# Altium footprint library resistor.PcbLib: 49 footprints (part 3 of 4)
Each footprint in its own frame and in the unit in brackets; x right, y up, seen from the top. Pads: shape width x height; smd on the part's side, far side on the other; paste and mask are expansions set on the pad; w line width, h text height; cw(c..) or ccw(c..) is an arc to the next point about the centre after c.
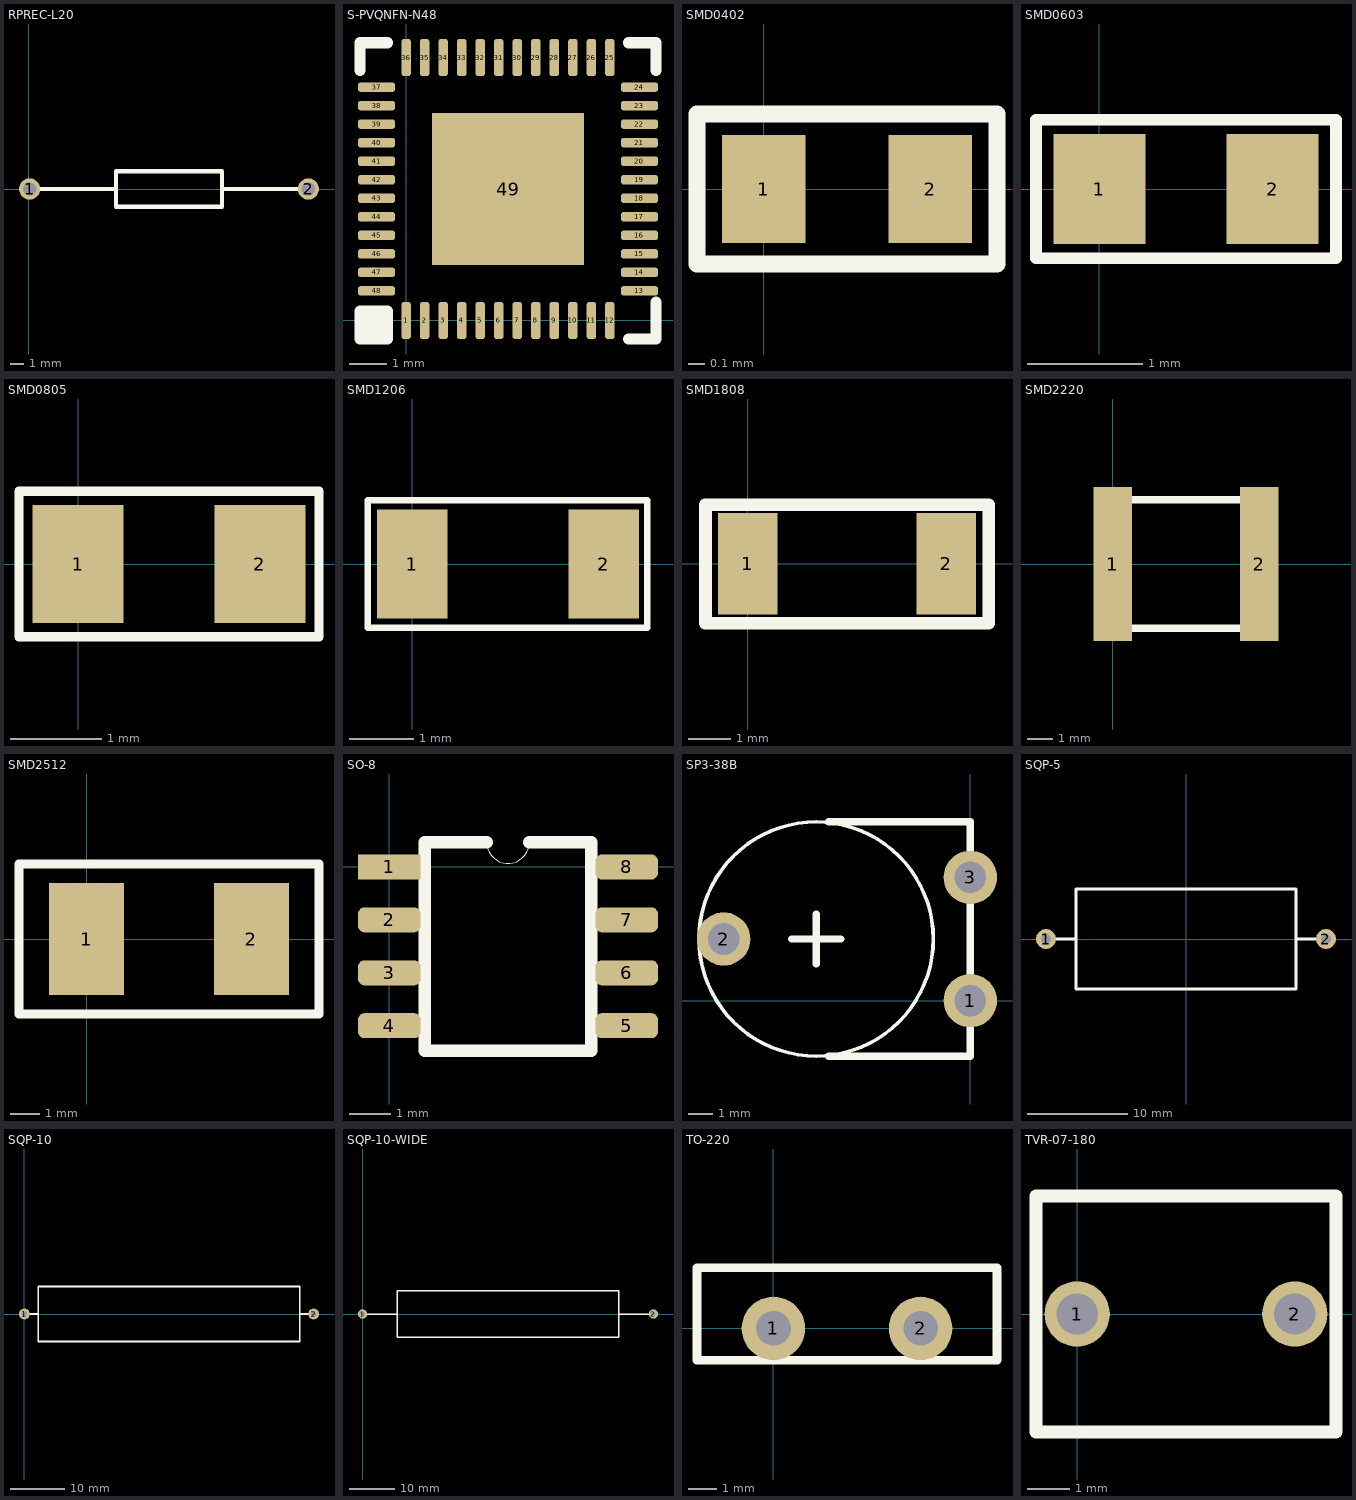
[diagram p2: the footprints below, top view; thin cyan lines are the x and y axes]

## RPREC-L20 [mil]
pads (2):
  round 60 hole 38: 1(3.15,0) 2(790.55,0)
Top Overlay:
  lines w11.81: 3.15,0 246.85,0 ; 546.85,0 790.55,0 ; 246.85,0 246.85,-50 546.85,-50 546.85,50 246.85,50 246.85,0

## S-PVQNFN-N48 [mm]
pads (49):
  rrect50% 0.25x1 smd: 1(0,0) 2(0.5,0) 3(1,0) 4(1.5,0) 5(2,0) 6(2.5,0) 7(3,0) 8(3.5,0) 9(4,0) 10(4.5,0) 11(5,0) 12(5.5,0) 25(5.5,7.1) 26(5,7.1) 27(4.5,7.1) 28(4,7.1) 29(3.5,7.1) 30(3,7.1) 31(2.5,7.1) 32(2,7.1) 33(1.5,7.1) 34(1,7.1) 35(0.5,7.1) 36(0,7.1)
  rrect50% 1x0.25 smd: 13(6.3,0.8) 14(6.3,1.3) 15(6.3,1.8) 16(6.3,2.3) 17(6.3,2.8) 18(6.3,3.3) 19(6.3,3.8) 20(6.3,4.3) 21(6.3,4.8) 22(6.3,5.3) 23(6.3,5.8) 24(6.3,6.3) 37(-0.8,6.3) 38(-0.8,5.8) 39(-0.8,5.3) 40(-0.8,4.8) 41(-0.8,4.3) 42(-0.8,3.8) 43(-0.8,3.3) 44(-0.8,2.8) 45(-0.8,2.3) 46(-0.8,1.8) 47(-0.8,1.3) 48(-0.8,0.8)
  rect 4.1x4.1 smd: 49(2.75,3.55)
Top Overlay:
  lines w0.3: -1.25,-0.25 -0.5,-0.25 ; -1.25,0 -0.5,0 ; -1.25,6.75 -1.25,7.5 -0.5,7.5 ; 6,-0.5 6.75,-0.5 6.75,0.5 ; 6,7.5 6.75,7.5 6.75,6.75 ; -1.25,-0.5 -0.5,-0.5 -0.5,0.25 -1.25,0.25 -1.25,-0.5

## SMD0402 [mm]
pads (2):
  rect 0.5x0.65 smd: 1(0,0) 2(1,0)
Top Overlay:
  lines w0.1: -0.4,-0.45 -0.4,0.45 1.4,0.45 1.4,-0.45 -0.4,-0.45
3D body "res 0402.step": height 0.36, standoff -0.01, extent -0.002,-0.262 1.002,0.263

## SMD0603 [mm]
pads (2):
  rect 0.8x0.95 smd: 1(0,0) 2(1.5,0)
Top Overlay:
  lines w0.1: -0.55,-0.6 -0.55,0.6 2.05,0.6 2.05,-0.6 -0.55,-0.6
3D body "res 0603.step": height 0.46, standoff -0.01, extent -0.052,-0.412 1.552,0.413

## SMD0805 [mm]
pads (2):
  rect 1x1.3 smd: 1(0,0) 2(2,0)
Top Overlay:
  lines w0.1: -0.65,-0.8 -0.65,0.498 -0.65,0.8 2.65,0.8 2.65,-0.8 -0.65,-0.8
3D body "res 0805.step": height 0.61, standoff -0.01, extent -0.002,-0.637 2.002,0.638

## SMD1206 [mm]
pads (2):
  rect 1.1x1.7 smd: 1(0,0) 2(3,0)
Top Overlay:
  lines w0.1: -0.7,-1 3.683,-1 3.683,1 -0.7,1 -0.7,-1
3D body "res 1206.step": height 0.61, standoff -0.01, extent -0.102,-0.812 3.102,0.813

## SMD1808 [mm]
pads (2):
  rect 1.4x2.4 smd: 1(0,0) 2(4.699,0)
Top Overlay:
  lines w0.3: -1,-1.4 -1,1.397 5.7,1.397 5.7,-1.4 -1,-1.4

## SMD2220 [mm]
pads (2):
  rect 1.5x6 smd: 1(0,0) 2(5.7,0)
Top Overlay:
  lines w0.3: 0,-2.5 5.7,-2.5 5.7,2.5 0,2.5 0,-2.5

## SMD2512 [mil]
pads (2):
  rect 100x150 smd: 1(0,0) 2(220,0)
Top Overlay:
  lines w11.81: -90,-100 310,-100 310,100 -90,100 -90,-100
3D body "res 2512.step": height 24.11, standoff -0.49, extent -15.81,-64.46 236.3,62.51

## SO-8 [mm]
pads (8):
  rect 1.5x0.6 smd: 1(0,0)
  rrect50% 1.5x0.6 smd: 2(0,-1.27) 3(0,-2.54) 4(0,-3.81) 5(5.7,-3.81) 6(5.7,-2.54) 7(5.7,-1.27) 8(5.7,0)
Top Overlay:
  lines w0.025: 2.342,0.595 ccw(c2.85,0.595) 3.358,0.595
  lines w0.3: 2.342,0.595 0.85,0.595 0.85,-4.405 4.85,-4.405 4.85,0.595 3.358,0.595

## SP3-38B [mm]
pads (3):
  round 2.2 hole 1.3: 1(0,0) 2(-10.16,2.54) 3(0,5.08)
Top Overlay:
  circle w0.15: c-6.35,2.54 r4.826
  lines w0.3: -7.366,2.54 -5.334,2.54 ; -6.35,1.524 -6.35,3.556 ; -5.842,-2.286 0,-2.286 0,7.366 -5.842,7.366

## SQP-5 [mm]
pads (2):
  round 2 hole 1: 1(-14,0) 2(14,0)
Top Overlay:
  lines w0.3: -14,0 -11,0 ; 11,0 14,0 ; -11,-5 11,-5 11,5 -11,5 -11,-5
3D body "User Library-SQP-5W.STEP": height 11.21, standoff -0.5, extent -14.475,-4.825 14.525,4.875

## SQP-10 [mm]
pads (2):
  round 2 hole 1: 1(0,0) 2(53.34,0)
Top Overlay:
  lines w0.3: 0,0 2.54,0 ; 50.8,0 53.34,0 ; 2.54,-5.08 50.8,-5.08 50.8,5.08 2.54,5.08 2.54,-5.08

## SQP-10-WIDE [mm]
pads (2):
  round 2 hole 1: 1(0,0) 2(63.5,0)
Top Overlay:
  lines w0.3: 0,0 7.62,0 ; 55.88,0 63.5,0 ; 7.62,-5.08 7.62,5.08 55.88,5.08 55.88,-5.08 7.62,-5.08

## TO-220 [mm]
pads (2):
  round 2.2 hole 1.2: 1(0,0) 2(5.1,0)
Top Overlay:
  lines w0.3: -2.65,-1.1 7.75,-1.1 7.75,2.1 -2.65,2.1 -2.65,-1.1

## TVR-07-180 [mil]
pads (2):
  round 60 hole 38: 1(0,0) 2(200,0)
Top Overlay:
  lines w11.81: -37.8,-108.27 237.8,-108.27 237.8,108.27 -37.8,108.27 -37.8,-108.27
3D body "varistor TVR_07_180.step": height 374.02, standoff -78.74, extent -39.37,-76.76 236.23,76.78